# Altium schematic symbol library power.SchLib: 1 symbol
Pins are listed as number, name and electrical type; pins without a type are passive.

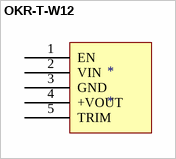
[diagram p0: symbol OKR-T-W12]

## OKR-T-W12
designator *
CONV DC/DC 10A 12VIN POL SIP; Manufacturer: Murata Power Solutions Inc; Manufacturer Part Number: OKR-T/10-W12-C; Power (Watts) - Manufacture Series: 50W; Number of Outputs: 1; Voltage - Input (Min): 4.5V; Voltage - Input (Max): 14V; Voltage - Output 1: 0.591 ~ 6 V; Efficiency: 92%; Supplier 1: Digi-Key; RoHS: RoHS Compliant; Category: Power Supplies - Board Mount; Stock 1: 6694; Pricing 1: 1=10, 5=9.92, 10=9.84, 25=9.7, 50=9.4, 100=8.9775 (USD); Packaging: Tray; Type: Non-Isolated PoL Module; Voltage - Output 2: -; Voltage - Output 3: -; Current - Output (Max): 10A; Voltage - Isolation: -; Features: Remote On/Off, OCP, OTP, SCP, UVLO; Mounting Type: Through Hole; Package / Case: 5-SIP Module; Size / Dimension: 0.41" L x 0.30" W x 0.65" H (10.4mm x 7.6mm x 16.5mm); Operating Temperature: -40°C ~ 85°C; Power (Watts) - Max: 50W; ComponentLink1URL: http://www.murata-ps.com/data/power/okr-t10-w12.pdf; ComponentLink1Description: http://www.murata-ps.com/data/power/okr-t10-w12.pdf; Supplier Part Number 1: 811-2180-ND
footprint OKR-T-W12
pins: 1 EN, 2 VIN, 3 GND, 4 +VOUT, 5 TRIM